# EAGLE library part 27C512D (library TheLittleEngineers.org-27C512E-TO-2532S-V1R1.20.APRIL.2019)
27C512D Copyright ©07 Jan 2013, by: Robert "The R.A.T." Allen Turner http://www.TheLittleEngineers.org/ TheLittleEngineers@outlook.com OurLittleEngineers@gMail.com You may use these components in your own projects, however, please take note that we CANNOT guarantee the accuracy of these components (nor any part of this library). We make NO guarantees that the components, footprints or schematic symbols in this library are flawless, and we make no promises of fitness for production, prototyping or any other purpose. These libraries are provided for informational purposes only, and are used at your own discretion. By downloading these libraries, you agree that we cannot be held responsible for faulty PCBs. You should always check the footprints with a 1:1 printout. Neither Robert Allen Turner, The Little Engineers <http://www.TheLittleEngineers.org/>, TheLittleEngineers.org, GIMEchip.com, nor anyone affiliated with same shall be held responsible for any outcome resulting from the usage of these files. Should any errors be found, please contact us at one of the above email addresses and we will attempt to repair them. Unless otherwise noted, content of this library is licensed under a Creative Commons Attribution-ShareAlike 4.0 International (CC BY-SA 4.0) license (https://creativecommons.org/licenses/by-sa/4.0/) on 20 April 2019 in memory of my Father, Robert Embry Turner - I LOVE YOU DAD! Rest In Peace. Please note that the GIMEchip.com domain was acquired by Robert "The R.A.T." Allen Turner on December 24, 2018 from the prior owners, which happen to be his brother and nephew. As such, "The R.A.T." is unable to answer any inquiries regarding any products or services of GIMEchip.com prior to that date. "The R.A.T." also acquired the rights to all products previously produced by GIMEchip.com and its previous owners. Those products will all be released as open source, under a Creative Commons Attribution-ShareAlike 4.0 International (CC BY-SA 4.0) license (https://creativecommons.org/licenses/by-sa/4.0/), as time and resources permit.
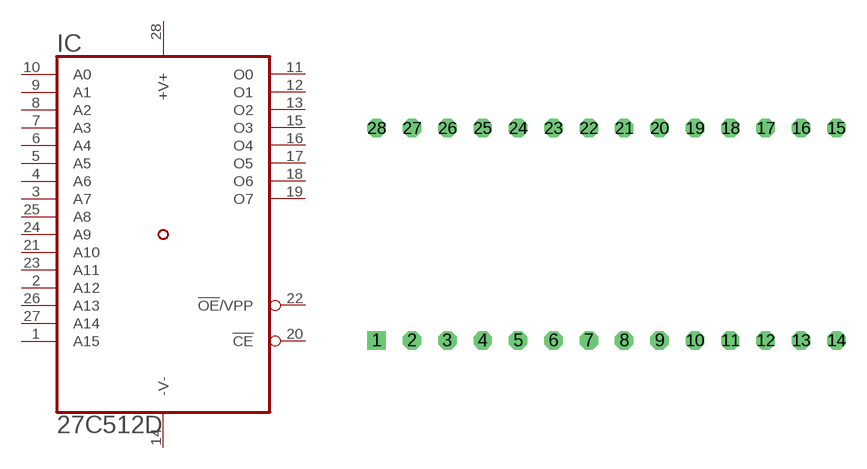
[diagram p0: symbol with the pads of DIL28-6-NO-OUTLINE; footprint DIL28-6-NO-OUTLINE]

Designator prefix IC

## 27C512D-NO  [DIL28-6-NO-OUTLINE]
1  A15  in
2  A12  in
3  A7  in
4  A6  in
5  A5  in
6  A4  in
7  A3  in
8  A2  in
9  A1  in
10  A0  in
11  O0  hiz
12  O1  hiz
13  O2  hiz
14  -V-  pwr
15  O3  hiz
16  O4  hiz
17  O5  hiz
18  O6  hiz
19  O7  hiz
20  !CE  in
21  A10  in
22  !OE!/VPP  in
23  A11  in
24  A9  in
25  A8  in
26  A13  in
27  A14  in
28  +V+  pwr

## Footprint DIL28-6-NO-OUTLINE (pad centres in mm)
Dual In Line Package (DIP) Socket Row Spacing: 0.6 inch (15.24 mm/600 mil) Number of Pins: (Grid): 28 (2 x 14) Pitch: 0.100 inch (2.54mm) Mounting Type: Through Hole Copyright ©07 Jan 2013, by: Robert "The R.A.T." Allen Turner http://www.TheLittleEngineers.org/ TheLittleEngineers@outlook.com OurLittleEngineers@gMail.com You may use these footprints in your own projects, however, please take note that we CANNOT guarantee the accuracy of these components (nor any part of this library). We make NO guarantees that the components, footprints or schematic symbols in this library are flawless, and we make no promises of fitness for production, prototyping or any other purpose. These libraries are provided for informational purposes only, and are used at your own discretion. By downloading these libraries, you agree that we cannot be held responsible for faulty PCBs. You should always check the footprints with a 1:1 printout. Neither Robert Allen Turner, The Little Engineers <http://www.TheLittleEngineers.org/>, TheLittleEngineers.org, GIMEchip.com, nor anyone affiliated with same shall be held responsible for any outcome resulting from the usage of these files. Should any errors be found, please contact us at one of the above email addresses and we will attempt to repair them. Unless otherwise noted, content of this library is licensed under a Creative Commons Attribution-ShareAlike 4.0 International (CC BY-SA 4.0) license (https://creativecommons.org/licenses/by-sa/4.0/) on 20 April 2019 in memory of my Father, Robert Embry Turner - I LOVE YOU DAD! Rest In Peace. Please note that the GIMEchip.com domain was acquired by Robert "The R.A.T." Allen Turner on December 24, 2018 from the prior owners, which happen to be his brother and nephew. As such, "The R.A.T." is unable to answer any inquiries regarding any products or services of GIMEchip.com prior to that date. "The R.A.T." also acquired the rights to all products previously produced by GIMEchip.com and its previous owners. Those products will all be released as open source, under a Creative Commons Attribution-ShareAlike 4.0 International (CC BY-SA 4.0) license (https://creativecommons.org/licenses/by-sa/4.0/), as time and resources permit.
drill 0.813 square: 1 -16.51,-7.62
drill 0.813 octagon: 2 -13.97,-7.62; 3 -11.43,-7.62; 4 -8.89,-7.62; 5 -6.35,-7.62; 6 -3.81,-7.62; 7 -1.27,-7.62; 8 1.27,-7.62; 9 3.81,-7.62; 10 6.35,-7.62; 11 8.89,-7.62; 12 11.43,-7.62; 13 13.97,-7.62; 14 16.51,-7.62; 15 16.51,7.62; 16 13.97,7.62; 17 11.43,7.62; 18 8.89,7.62; 19 6.35,7.62; 20 3.81,7.62; 21 1.27,7.62; 22 -1.27,7.62; 23 -3.81,7.62; 24 -6.35,7.62; 25 -8.89,7.62; 26 -11.43,7.62; 27 -13.97,7.62; 28 -16.51,7.62